# Altium schematic symbol library SCH - DIODES - SCHOTTKY_12CWQ06FNPBF.SCHLIB: 1 symbol
Pins are listed as number, name and electrical type; pins without a type are passive.

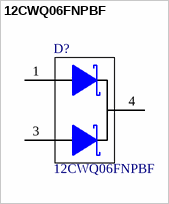
[diagram p0: symbol 12CWQ06FNPBF]

## 12CWQ06FNPBF
designator D?
Diode, Schottky, 60 V, 12 A, DPAK; Manufacturer: Vishay-Semiconductor; U/M: EA; Vf_V: 0.79; Value: 60V; Value1: 12A; Value2: 0.79V; Io_A: 12; Vr_V: 60; TJmax_C: 150; RJC_CperW: 1.5; AEC Category: Q101; SymbolVersion: 2008-12-08; PartNumber: 12CWQ06FNPBF; PackageReference: DPAK; CompType: Diode; MountType: SMT; Type: Schottky; RoHS: Y; Published: 2008-06-26; Publisher: Texas Instruments; LatestRevisionDate: 2016-04-29; ComponentLink1Description: Datasheet link; ComponentLink1URL: http://www.vishay.com/docs/94134/12cwq06f.pdf; Supplier 1: Mouser; Supplier Part Number 1: 844-12CWQ06FNPBF; Supplier 2: Farnell; Supplier Part Number 2: 9101187; Supplier 3: Newark; Supplier Part Number 3: 73K9770; AEC Qualified: ?
footprint DPAK
pins: 1 A, 3 A, 4 K